# Altium footprint library IC_Texas_Instruments_LMP7702MA_eec_0.PcbLib: 1 footprints
Each footprint in its own frame and in the unit in brackets; x right, y up, seen from the top. Pads: shape width x height; smd on the part's side, far side on the other; paste and mask are expansions set on the pad; w line width, h text height; cw(c..) or ccw(c..) is an arc to the next point about the centre after c.
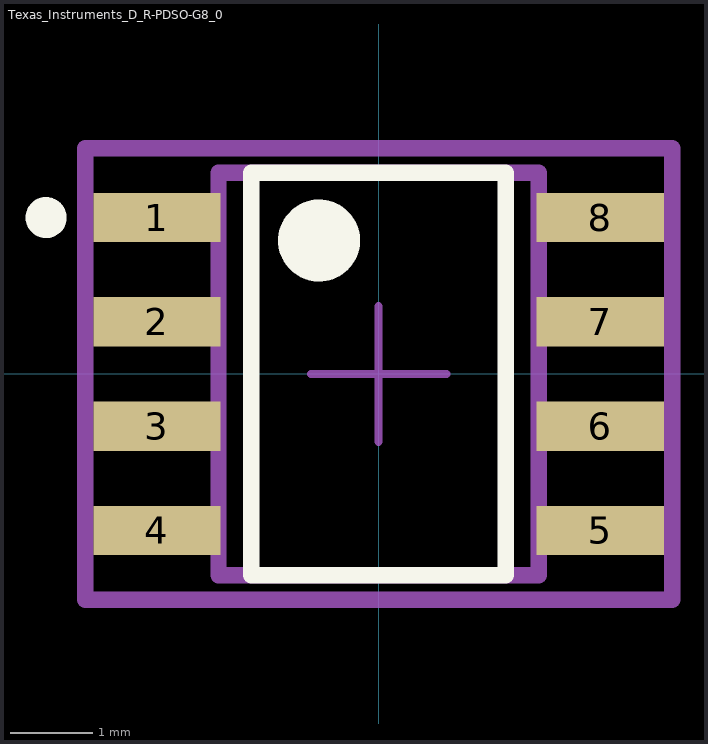
[diagram p0: the footprint, top view; thin cyan lines are the x and y axes]

## Texas_Instruments_D_R-PDSO-G8_0 [mm]
pads (8):
  rect 1.55x0.6 smd paste-1000 mask+0: 1(-2.7,1.905) 2(-2.7,0.635) 3(-2.7,-0.635) 4(-2.7,-1.905) 5(2.7,-1.905) 6(2.7,-0.635) 7(2.7,0.635) 8(2.7,1.905)
Top Overlay:
  circle w0.5: c-0.725,1.625 r0.25
  circle w0.25: c-4.05,1.905 r0.125
  lines w0.2: -1.55,-2.45 1.55,-2.45 1.55,2.45 -1.55,2.45 -1.55,-2.45
Top Paste:
  rectangle: -3.45,1.63 -1.95,2.18
  rectangle: -3.45,0.36 -1.95,0.91
  rectangle: -3.45,-0.91 -1.95,-0.36
  rectangle: -3.45,-2.18 -1.95,-1.63
  rectangle: 1.95,-2.18 3.45,-1.63
  rectangle: 1.95,1.63 3.45,2.18
  rectangle: 1.95,0.36 3.45,0.91
  rectangle: 1.95,-0.91 3.45,-0.36
Mechanical 10:
  lines w0.2: -3.575,-2.75 3.575,-2.75 3.575,2.75 -3.575,2.75 -3.575,-2.75
  text ".Designator" at 0,0.188 h1
Mechanical 12:
  lines w0.2: -1.95,-2.45 1.95,-2.45 1.95,2.45 -1.95,2.45 -1.95,-2.45
Mechanical 15:
  lines w0.1: -0.825,0 0.825,0 ; 0,-0.825 0,0.825
  lines w0.2: -3.575,-2.75 3.575,-2.75 3.575,2.75 -3.575,2.75 -3.575,-2.75
3D body "IC_Texas_Instruments_LMP7702MA_eec.STEP": height 0.25, standoff 0, extent -3.575,-2.75 3.575,2.75